# Altium footprint library ZJUNlict_footprint.PcbLib: 113 footprints (part 4 of 8)
Each footprint in its own frame and in the unit in brackets; x right, y up, seen from the top. Pads: shape width x height; smd on the part's side, far side on the other; paste and mask are expansions set on the pad; w line width, h text height; cw(c..) or ccw(c..) is an arc to the next point about the centre after c.
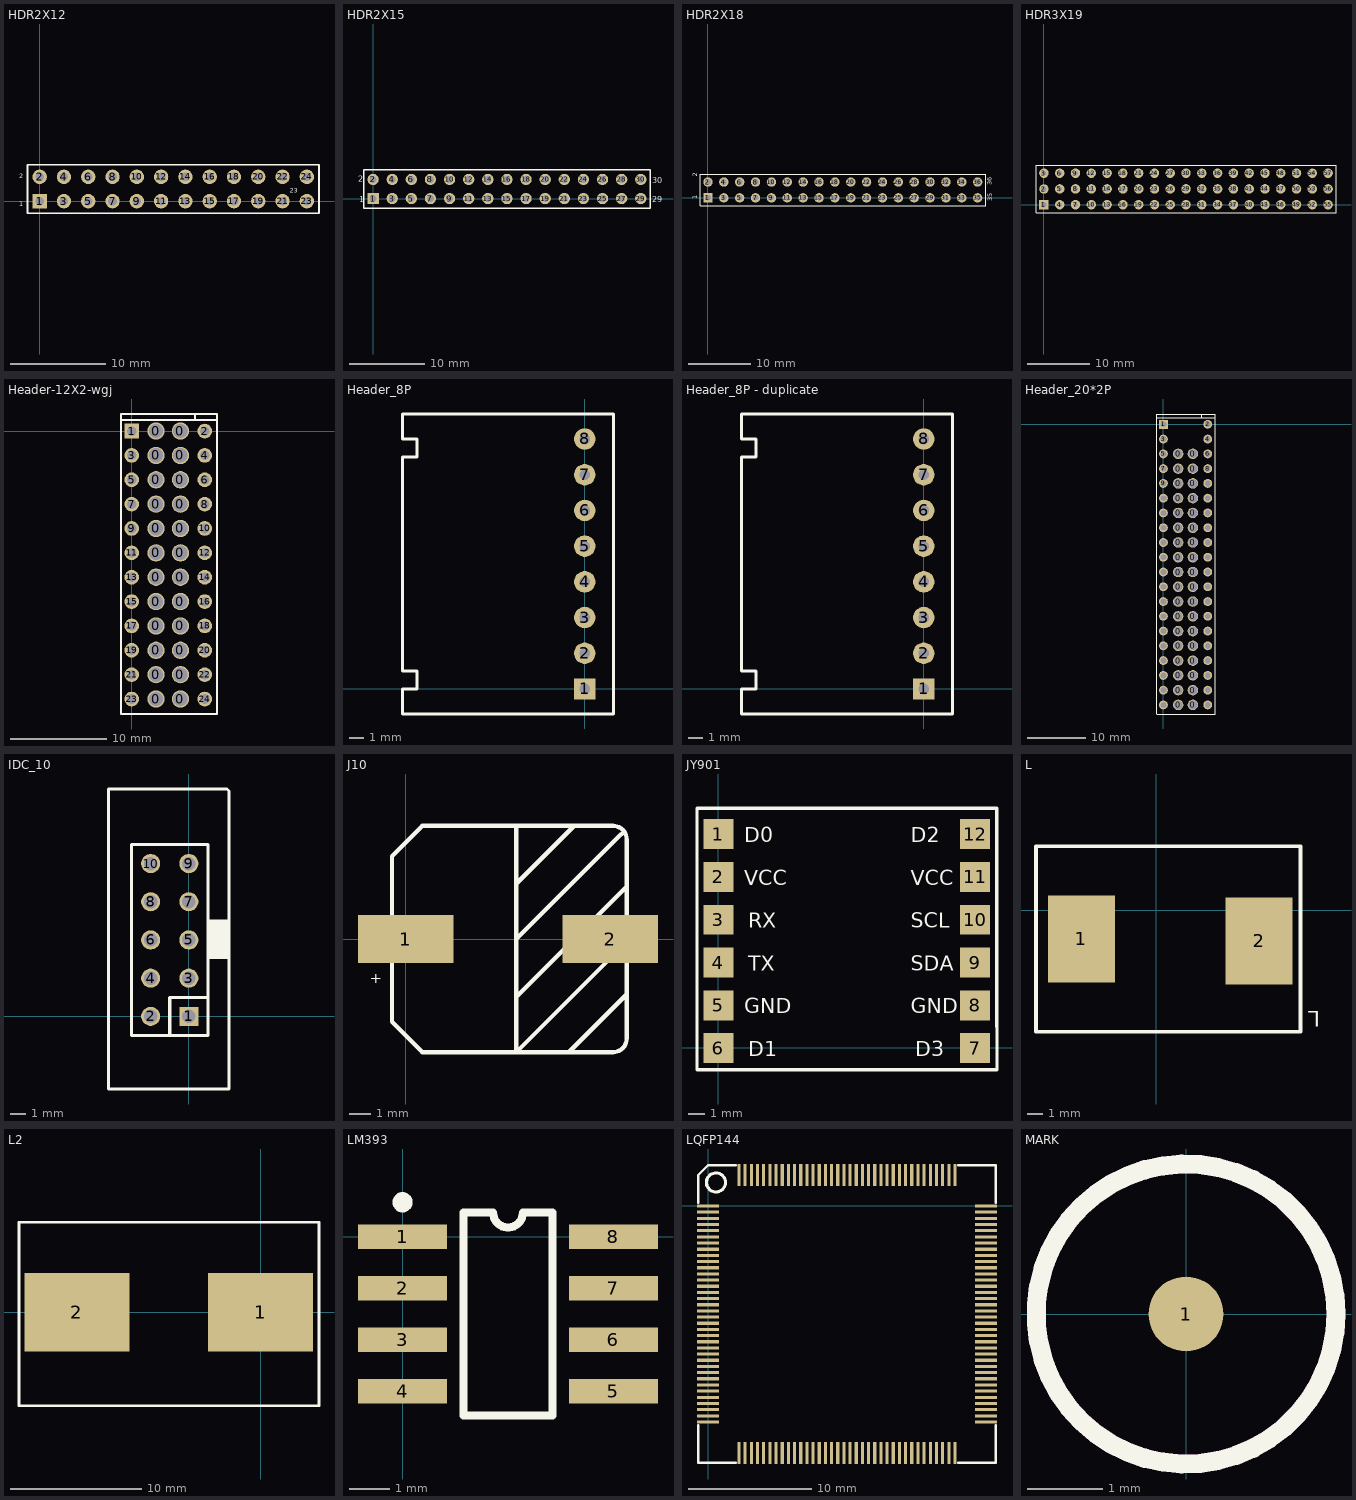
[diagram p3: the footprints below, top view; thin cyan lines are the x and y axes]

## HDR2X12 [mm] "Connector; Header; 12x2 Position"
pads (24):
  rect 1.5x1.5 hole 0.9: 1(0,0)
  round 1.5 hole 0.9: 2(0,2.54) 3(2.54,0) 4(2.54,2.54) 5(5.08,0) 6(5.08,2.54) 7(7.62,0) 8(7.62,2.54) 9(10.16,0) 10(10.16,2.54) 11(12.7,0) 12(12.7,2.54) 13(15.24,0) 14(15.24,2.54) 15(17.78,0) 16(17.78,2.54) 17(20.32,0) 18(20.32,2.54) 19(22.86,0) 20(22.86,2.54) 21(25.4,0) 22(25.4,2.54) 23(27.94,0) 24(27.94,2.54)
Top Overlay:
  lines w0.2: -1.27,-1.27 -1.27,3.81 29.21,3.81 29.21,-1.27 -1.27,-1.27
  text "1" at -2.159,-0.508 h0.51
  text "2" at -2.159,2.413 h0.51
  text "23" at 26.162,0.889 h0.51

## HDR2X15 [mm]
height 6.35
pads (30):
  rect 1.5x1.5 hole 0.9: 1(0,0)
  round 1.5 hole 0.9: 2(0,2.54) 3(2.54,0) 4(2.54,2.54) 5(5.08,0) 6(5.08,2.54) 7(7.62,0) 8(7.62,2.54) 9(10.16,0) 10(10.16,2.54) 11(12.7,0) 12(12.7,2.54) 13(15.24,0) 14(15.24,2.54) 15(17.78,0) 16(17.78,2.54) 17(20.32,0) 18(20.32,2.54) 19(22.86,0) 20(22.86,2.54) 21(25.4,0) 22(25.4,2.54) 23(27.94,0) 24(27.94,2.54) 25(30.48,0) 26(30.48,2.54) 27(33.02,0) 28(33.02,2.54) 29(35.56,0) 30(35.56,2.54)
Top Overlay:
  lines w0.2: -1.27,-1.27 36.83,-1.27 36.83,3.81 -1.27,3.81 -1.27,-1.27
  text "1" at -1.829,-0.508 h0.76
  text "2" at -2.007,2.261 h0.76
  text "29" at 37.084,-0.508 h0.76
  text "30" at 37.084,2.032 h0.76

## HDR2X18 [mm]
height 6.35
pads (36):
  rect 1.5x1.5 hole 0.9: 1(0,0)
  round 1.5 hole 0.9: 2(0,2.54) 3(2.54,0) 4(2.54,2.54) 5(5.08,0) 6(5.08,2.54) 7(7.62,0) 8(7.62,2.54) 9(10.16,0) 10(10.16,2.54) 11(12.7,0) 12(12.7,2.54) 13(15.24,0) 14(15.24,2.54) 15(17.78,0) 16(17.78,2.54) 17(20.32,0) 18(20.32,2.54) 19(22.86,0) 20(22.86,2.54) 21(25.4,0) 22(25.4,2.54) 23(27.94,0) 24(27.94,2.54) 25(30.48,0) 26(30.48,2.54) 27(33.02,0) 28(33.02,2.54) 29(35.56,0) 30(35.56,2.54) 31(38.1,0) 32(38.1,2.54) 33(40.64,0) 34(40.64,2.54) 35(43.18,0) 36(43.18,2.54)
Top Overlay:
  lines w0.2: -1.27,-1.27 -1.27,3.81 44.45,3.81 44.45,-1.27 -1.27,-1.27
  text "2" at -1.702,3.353 h0.76
  text "1" at -1.753,-0.254 h0.76
  text "35" at 45.517,-0.559 h0.76
  text "36" at 45.466,2.057 h0.76

## HDR3X19 [mil] "servo connector"
pads (57):
  rect 59.06x59.06 hole 35.43: 1(0,0)
  round 59.06 hole 35.43: 2(0,100)
  round 60 hole 30: 3(0,200) 4(100.45,0.47) 5(100.45,100.47) 6(100,200) 7(200.42,0.47) 8(200.42,100.47) 9(200,200) 10(300.39,0.47) 11(300.39,100.47) 12(300,200) 13(400.37,0.47) 14(400.37,100.47) 15(400,200) 16(500.34,0.47) 17(500.34,100.47) 18(500,200) 19(600.31,0.47) 20(600.31,100.47) 21(600,200) 22(700.29,0.47) 23(700.29,100.47) 24(700,200) 25(800.26,0.47) 26(800.26,100.47) 27(800,200) 28(900.24,0.47) 29(900.24,100.47) 30(900,200) 31(1000.21,0.47) 32(1000.21,100.47) 33(1000,200) 34(1100.18,0.47) 35(1100.18,100.47) 36(1100,200) 37(1200.16,0.47) 38(1200.16,100.47) 39(1200,200) 40(1300.13,0.47) 41(1300.13,100.47) 42(1300,200) 43(1400.1,0.47) 44(1400.1,100.47) 45(1400,200) 46(1500.08,0.47) 47(1500.08,100.47) 48(1500,200) 49(1600.05,0.47) 50(1600.05,100.47) 51(1600,200) 52(1700.03,0.47) 53(1700.03,100.47) 54(1700,200) 55(1800,0.47) 56(1800,100.47) 57(1800,200)
Top Overlay:
  lines w7.87: -50,-50 -50,250 1850,250 1850,-50 -50,-50

## Header-12X2-wgj [mm]
pads (48):
  round 1.8 hole 1.5: 0(2.54,-20.32) 0(2.54,-17.78) 0(2.54,-15.24) 0(2.54,-12.7) 0(2.54,-10.16) 0(2.54,-7.62) 0(2.54,-2.54) 0(2.54,-27.94) 0(2.54,-25.4) 0(2.54,-22.86) 0(2.54,-5.08) 0(2.54,0) 0(5.08,-20.32) 0(5.08,-17.78) 0(5.08,-15.24) 0(5.08,-12.7) 0(5.08,-10.16) 0(5.08,-7.62) 0(5.08,-5.08) 0(5.08,-2.54) 0(5.08,-27.94) 0(5.08,-25.4) 0(5.08,-22.86) 0(5.08,0)
  rect 1.524x1.524 hole 1: 1(0,0)
  round 1.524 hole 1: 2(7.62,0) 3(0,-2.54) 4(7.62,-2.54) 5(0,-5.08) 6(7.62,-5.08) 7(0,-7.62) 8(7.62,-7.62) 9(0,-10.16) 10(7.62,-10.16) 11(0,-12.7) 12(7.62,-12.7) 13(0,-15.24) 14(7.62,-15.24) 15(0,-17.78) 16(7.62,-17.78) 17(0,-20.32) 18(7.62,-20.32) 19(0,-22.86) 20(7.62,-22.86) 21(0,-25.4) 22(7.62,-25.4) 23(0,-27.94) 24(7.62,-27.94)
Top Overlay:
  lines w0.2: -1.11,1.143 8.89,1.143 ; 6.604,1.143 6.604,1.778 ; -1.11,-29.502 -1.11,1.778 8.89,1.778 8.89,-29.502 -1.11,-29.502

## Header_8P [mil] "Used for Motor connecter in ZJUNlict"
pads (8):
  rect 60x60 hole 30: 1(0,0)
  round 60 hole 30: 2(0,100) 3(0,200) 4(0,300) 5(0,400) 6(0,500) 7(0,600) 8(0,700)
Top Overlay:
  lines w8: -510,-70 -510,0 -470,0 -470,50 -510,50 -510,650 -470,650 -470,700 -510,700 -510,770 80,770 80,-70 -510,-70

## Header_8P - duplicate [mil] "Used for Motor connecter in ZJUNlict"
pads (8):
  rect 60x60 hole 30: 1(0,0)
  round 60 hole 30: 2(0,100) 3(0,200) 4(0,300) 5(0,400) 6(0,500) 7(0,600) 8(0,700)
Top Overlay:
  lines w8: -510,-70 -510,0 -470,0 -470,50 -510,50 -510,650 -470,650 -470,700 -510,700 -510,770 80,770 80,-70 -510,-70

## Header_20*2P [mm] "Used for CoreBoard connector in ZJUNlict"
pads (76):
  round 1.8 hole 1.5: 0(2.54,-38.1) 0(2.54,-35.56) 0(2.54,-33.02) 0(2.54,-30.48) 0(2.54,-27.94) 0(2.54,-25.4) 0(2.54,-20.32) 0(2.54,-48.26) 0(2.54,-45.72) 0(2.54,-43.18) 0(2.54,-40.64) 0(2.54,-22.86) 0(2.54,-17.78) 0(2.54,-15.24) 0(2.54,-12.7) 0(2.54,-10.16) 0(2.54,-7.62) 0(2.54,-5.08) 0(5.08,-38.1) 0(5.08,-35.56) 0(5.08,-33.02) 0(5.08,-30.48) 0(5.08,-27.94) 0(5.08,-25.4) 0(5.08,-22.86) 0(5.08,-20.32) 0(5.08,-48.26) 0(5.08,-45.72) 0(5.08,-43.18) 0(5.08,-40.64) 0(5.08,-17.78) 0(5.08,-15.24) 0(5.08,-12.7) 0(5.08,-10.16) 0(5.08,-7.62) 0(5.08,-5.08)
  rect 1.524x1.524 hole 1: 1(0,0)
  round 1.524 hole 1: 2(7.62,0) 3(0,-2.54) 4(7.62,-2.54) 5(0,-5.08) 6(7.62,-5.08) 7(0,-7.62) 8(7.62,-7.62) 9(0,-10.16) 10(7.62,-10.16) 11(0,-12.7) 12(7.62,-12.7) 13(0,-15.24) 14(7.62,-15.24) 15(0,-17.78) 16(7.62,-17.78) 17(0,-20.32) 18(7.62,-20.32) 19(0,-22.86) 20(7.62,-22.86) 21(0,-25.4) 22(7.62,-25.4) 23(0,-27.94) 24(7.62,-27.94) 25(0,-30.48) 26(7.62,-30.48) 27(0,-33.02) 28(7.62,-33.02) 29(0,-35.56) 30(7.62,-35.56) 31(0,-38.1) 32(7.62,-38.1) 33(0,-40.64) 34(7.62,-40.64) 35(0,-43.18) 36(7.62,-43.18) 37(0,-45.72) 38(7.62,-45.72) 39(0,-48.26) 40(7.62,-48.26)
Top Overlay:
  lines w0.2: -1.11,-49.822 8.89,-49.822 ; -1.11,-49.784 -1.11,1.778 8.89,1.778 8.89,-49.784 ; -1.11,1.143 8.89,1.143 ; 6.604,1.143 6.604,1.778

## IDC_10 [mm] "EPCS&JTAG CONNECTOR"
pads (10):
  rect 1.27x1.27 hole 0.9: 1(0,0)
  round 1.27 hole 0.9: 2(-2.54,0) 3(0,2.54) 4(-2.54,2.54) 5(0,5.08) 6(-2.54,5.08) 7(0,7.62) 8(-2.54,7.62) 9(0,10.16) 10(-2.54,10.16)
Top Overlay:
  rectangle: 1.295,3.81 2.692,6.452
  lines w0.203: -1.27,-1.27 -1.27,1.27 1.27,1.27 ; -5.334,-4.826 2.667,-4.826 2.667,14.986 2.54,15.113 -5.334,15.113 -5.334,-4.826 ; -3.81,-1.27 1.27,-1.27 1.27,11.43 -3.81,11.43 -3.81,-1.27

## J10 [mm]
pads (2):
  rect 4.4x2.2 smd: 1(0,0) 2(9.398,0)
Top Overlay:
  lines w0.2: 9.525,-5.207 ccw(c9.525,-4.572) 10.16,-4.572 ; 9.525,5.207 cw(c9.525,4.572) 10.16,4.572
  lines w0.203: 5.08,-5.207 5.08,5.207 ; 5.08,-2.667 10.16,2.413 ; 5.08,0 9.906,4.826 ; 5.08,2.54 7.747,5.207 ; 5.207,-5.08 10.033,-0.254 ; 7.493,-5.207 10.16,-2.54 ; 9.525,-5.207 0.762,-5.207 -0.635,-3.81 -0.635,0 -0.635,3.81 0.762,5.207 9.525,5.207 ; 10.16,-4.572 10.16,4.572
  text "+" at -1.651,-2.032 h0.51

## JY901 [mil]
pads (12):
  rect 70x70 smd: 1(0.63,499.63) 2(0.63,399.63) 3(0.63,299.63) 4(0.63,199.63) 5(0.63,99.63) 6(0.63,-0.37) 7(600.63,-0.37) 8(600.63,99.63) 9(600.63,199.63) 10(600.63,299.63) 11(600.63,399.63) 12(600.63,499.63)
Top Overlay:
  lines w7.87: -49.37,49.63 -49.37,449.63 ; 650.63,449.63 650.63,49.63 651.63,49.63
  lines w8: -49.37,49.63 -49.37,-51.37 651.63,-51.37 651.63,49.63 ; -49.37,449.63 -49.37,560.63 650.63,560.63 650.63,449.63
  text "VCC" at 60.63,380.63 h35
  text "VCC" at 450.63,380.63 h35
  text "GND" at 60.63,80.63 h35
  text "GND" at 450.63,80.63 h35
  text "RX" at 70.63,280.63 h35
  text "TX" at 70.63,180.63 h35
  text "SDA" at 450.63,180.63 h35
  text "SCL" at 450.63,280.63 h35
  text "D0" at 60.63,480.63 h35
  text "D1" at 70.63,-19.37 h35
  text "D2" at 450.63,480.63 h35
  text "D3" at 460.63,-19.37 h35

## L [mil]
height 57.09
pads (2):
  rect 170x220 smd: 1(-190,-72.5) 2(260,-77.5)
Top Overlay:
  lines w10: -305,-307.5 -305,162.5 365,162.5 365,-307.5 -305,-307.5
  text "L" at 415,-255 h40

## L2 [mm]
pads (2):
  rect 8x6 smd: 1(0,0) 2(-14,0)
Top Overlay:
  lines w0.203: -18.415,-7.112 4.445,-7.112 4.445,6.858 -18.415,6.858 -18.415,-7.112

## LM393 [mm]
pads (8):
  rect 2.2x0.6 smd: 1(0,0) 2(0,-1.27) 3(0,-2.54) 4(0,-3.81) 5(5.2,-3.81) 6(5.2,-2.54) 7(5.2,-1.27) 8(5.2,0)
Top Overlay:
  circle w0.25: c0,0.85 r0.125
  lines w0.2: 2.233,0.595 ccw(c2.6,0.595) 2.967,0.595 ; 2.233,0.595 1.5,0.595 1.5,-4.405 3.7,-4.405 3.7,0.595 2.967,0.595

## LQFP144 [mm]
pads (144):
  rect 1.8x0.254 smd: 1(-0.009,0.001) 2(-0.009,-0.499) 3(-0.009,-0.999) 4(-0.009,-1.499) 5(-0.009,-1.999) 6(-0.009,-2.499) 7(-0.009,-2.999) 8(-0.009,-3.499) 9(-0.009,-3.999) 10(-0.009,-4.499) 11(-0.009,-4.999) 12(-0.009,-5.499) 13(-0.009,-5.999) 14(-0.009,-6.499) 15(-0.009,-6.999) 16(-0.009,-7.499) 17(-0.009,-7.999) 18(-0.009,-8.499) 19(-0.009,-8.999) 20(-0.009,-9.499) 21(-0.009,-9.999) 22(-0.009,-10.499) 23(-0.009,-10.999) 24(-0.009,-11.499) 25(-0.009,-11.999) 26(-0.009,-12.499) 27(-0.009,-12.999) 28(-0.009,-13.499) 29(-0.009,-13.999) 30(-0.009,-14.499) 31(-0.009,-14.999) 32(-0.009,-15.499) 33(-0.009,-15.999) 34(-0.009,-16.499) 35(-0.009,-16.999) 36(-0.009,-17.499) 73(22.491,-17.499) 74(22.491,-16.999) 75(22.491,-16.499) 76(22.491,-15.999) 77(22.491,-15.499) 78(22.491,-14.999) 79(22.491,-14.499) 80(22.491,-13.999) 81(22.491,-13.499) 82(22.491,-12.999) 83(22.491,-12.499) 84(22.491,-11.999) 85(22.491,-11.499) 86(22.491,-10.999) 87(22.491,-10.499) 88(22.491,-9.999) 89(22.491,-9.499) 90(22.491,-8.999) 91(22.491,-8.499) 92(22.491,-7.999) 93(22.491,-7.499) 94(22.491,-6.999) 95(22.491,-6.499) 96(22.491,-5.999) 97(22.491,-5.499) 98(22.491,-4.999) 99(22.491,-4.499) 100(22.491,-3.999) 101(22.491,-3.499) 102(22.491,-2.999) 103(22.491,-2.499) 104(22.491,-1.999) 105(22.491,-1.499) 106(22.491,-0.999) 107(22.491,-0.499) 108(22.491,0.001)
  rect 0.254x1.8 smd: 37(2.491,-19.999) 38(2.991,-19.999) 39(3.491,-19.999) 40(3.991,-19.999) 41(4.491,-19.999) 42(4.991,-19.999) 43(5.491,-19.999) 44(5.991,-19.999) 45(6.491,-19.999) 46(6.991,-19.999) 47(7.491,-19.999) 48(7.991,-19.999) 49(8.491,-19.999) 50(8.991,-19.999) 51(9.491,-19.999) 52(9.991,-19.999) 53(10.491,-19.999) 54(10.991,-19.999) 55(11.491,-19.999) 56(11.991,-19.999) 57(12.491,-19.999) 58(12.991,-19.999) 59(13.491,-19.999) 60(13.991,-19.999) 61(14.491,-19.999) 62(14.991,-19.999) 63(15.491,-19.999) 64(15.991,-19.999) 65(16.491,-19.999) 66(16.991,-19.999) 67(17.491,-19.999) 68(17.991,-19.999) 69(18.491,-19.999) 70(18.991,-19.999) 71(19.491,-19.999) 72(19.991,-19.999) 109(19.991,2.501) 110(19.491,2.501) 111(18.991,2.501) 112(18.491,2.501) 113(17.991,2.501) 114(17.491,2.501) 115(16.991,2.501) 116(16.491,2.501) 117(15.991,2.501) 118(15.491,2.501) 119(14.991,2.501) 120(14.491,2.501) 121(13.991,2.501) 122(13.491,2.501) 123(12.991,2.501) 124(12.491,2.501) 125(11.991,2.501) 126(11.491,2.501) 127(10.991,2.501) 128(10.491,2.501) 129(9.991,2.501) 130(9.491,2.501) 131(8.991,2.501) 132(8.491,2.501) 133(7.991,2.501) 134(7.491,2.501) 135(6.991,2.501) 136(6.491,2.501) 137(5.991,2.501) 138(5.491,2.501) 139(4.991,2.501) 140(4.491,2.501) 141(3.991,2.501) 142(3.491,2.501) 143(2.991,2.501) 144(2.491,2.501)
Top Overlay:
  circle w0.254: c0.624,1.905 r0.773
  lines w0.2: -0.809,-17.749 -0.809,-20.799 2.241,-20.799 ; -0.809,0.251 -0.809,2.501 -0.009,3.301 2.241,3.301 ; 20.241,-20.799 23.291,-20.799 23.291,-17.749 ; 20.241,3.301 23.291,3.301 23.291,0.251

## MARK [mm]
pads (1):
  round 1 smd: 1(0,0)
Top Overlay:
  circle w0.254: c0,0 r2
Keep-Out Layer:
  circle w0.254: c0,0 r2